# Altium integrated library pca10059.IntLib: 25 symbols
Pins are listed as number, name and electrical type; pins without a type are passive.

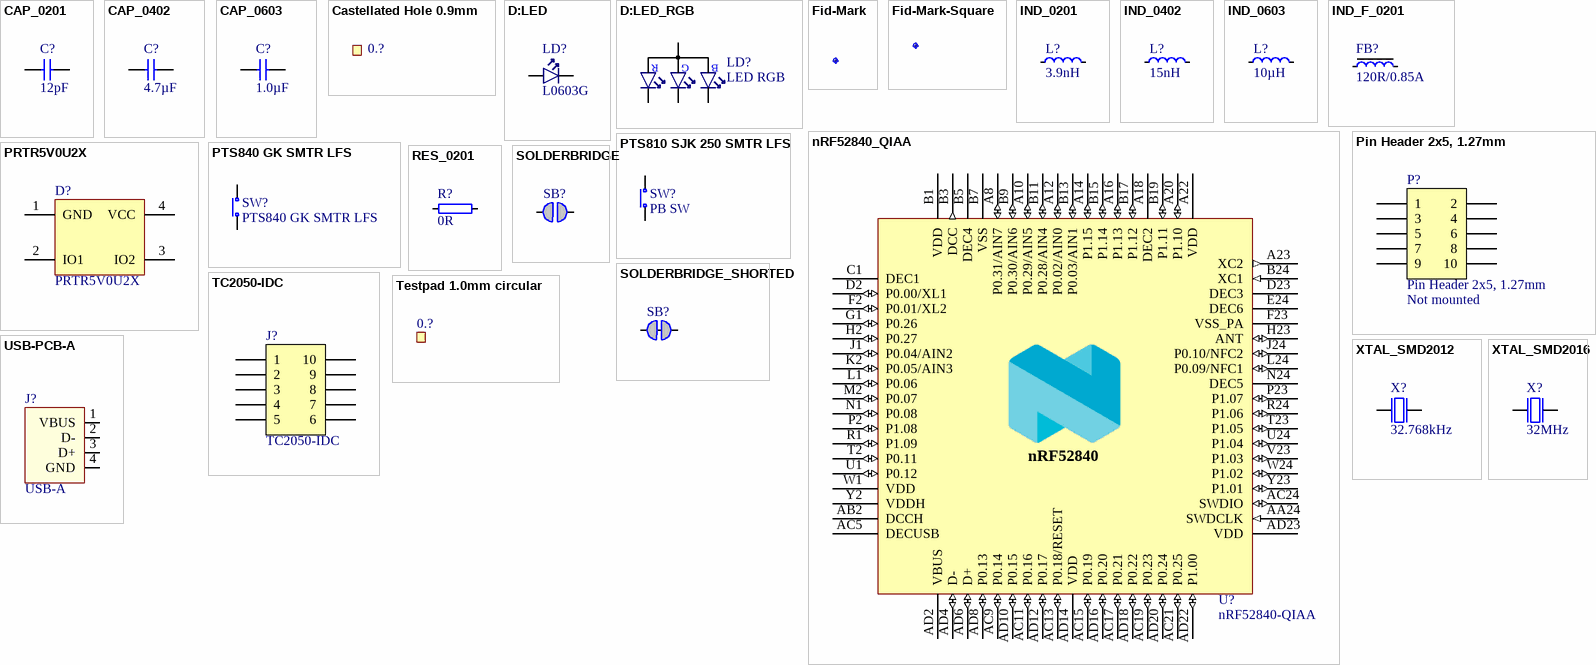
[diagram p0: symbols CAP_0201 to XTAL_SMD2016]

## CAP_0201
designator C?, comment 12pF
Capacitor, NP0, ±2%; Part Number: C0201-12p; Part number IPS: 00000007848; Note: 25V; Artikkelnr Noca: N.A.; Manufacturer: *; Manufacturer Part Number: *; LatestRevisionDate: 2017-11-09; Pin Count: 2; Publisher: Nordic Semiconductor; Published: 2014-11-13; Value: 12pF; Supplier: *; Supplier part number: *; 2nd source Supplier: *; 2nd source part number: *; Footprint Doc: 0201; Artikkelnr Simpro: N.A.; ComponentLink1Description: Datasheet; ComponentLink1URL: *; ComponentLink2Description: Supplier link; ComponentLink2URL: *; HelpURL: *
footprint CAPC0603X03L_C
pins: 1, 2

## CAP_0402
designator C?, comment 4.7µF
Capacitor, X5R, ±20%; Part Number: C0402-4µ7; Part number IPS: 00000001251; Note: 10V; Artikkelnr Noca: 20039482; Artikkelnr Simpro: N.A.; Manufacturer: *; Manufacturer Part Number: *; LatestRevisionDate: 2017-11-09; Pin Count: 2; Publisher: Nordic Semiconductor; Published: 2009-05-08; Value: 4.7µF; Supplier: Digi-Key; Supplier part number: 490-13252-1-ND; 2nd source Supplier: *; 2nd source part number: *; Footprint Doc: 0402; ComponentLink1Description: Datasheet; ComponentLink1URL: *; ComponentLink2Description: Supplier link; ComponentLink2URL: *; HelpURL: *
footprint CAPC1005X04L
pins: 1, 2

## CAP_0603
designator C?, comment 1.0µF
Capacitor, X7R, ±10%; Part Number: C0603-1µ0; Part number IPS: 00000000616; Note: 16V; Artikkelnr Noca: 20039335; Artikkelnr Simpro: N.A.; Manufacturer: *; Manufacturer Part Number: *; LatestRevisionDate: 2013-06-05; Pin Count: 2; Publisher: Nordic Semiconductor; Published: 2009-05-08; Value: 1.0µF; Supplier: *; Supplier part number: *; 2nd source Supplier: *; 2nd source part number: *; Footprint Doc: 0603; ComponentLink1Description: Datasheet; ComponentLink1URL: *; ComponentLink2Description: Supplier link; ComponentLink2URL: *; HelpURL: *
footprint CAPC1608X06L
pins: 1, 2

## Castellated Hole 0.9mm
designator 0.?, comment CH  (value not drawn)  (no BOM)
Castellated Hole 0.9mm; Artikkelnr Noca: N.A.; Part Number: Castellated Hole 0.9mm; Manufacturer: *; Manufacturer Part Number: *; Datasheet: *; LatestRevisionDate: 2016-08-22; Pin Count: 1; Publisher: Nordic Semiconductor; Published: 2016-08-22; Value: CH; Note: *; Supplier: *; Supplier part number: *; 2nd source Supplier: *; 2nd source part number: *; Artikkelnr Simpro: N.A.; ComponentLink1Description: Datasheet; ComponentLink1URL: *; ComponentLink2Description: Supplier link; ComponentLink2URL: *; HelpURL: *
footprint Castellated_Hole_0.9mm
pins: 1

## D:LED
designator LD?, comment L0603G
LED, Green, 0603, 573nm, Vf=2.0V, 24mcd, - 40 to +85°C; Part Number: VS 25C7M5; Manufacturer: Victory Electronics; Artikkelnr Noca: N.A.; Manufacturer Part Number: VS 25C7M5; LatestRevisionDate: 2017-08-21; Pin Count: 2; Publisher: Nordic Semiconductor; Published: 2017-08-21; Value: L0603G; Note: *; Supplier: EC Partner; Supplier part number: *; 2nd source Supplier: *; 2nd source part number: *; Footprint Doc: 0603; Artikkelnr Simpro: N.A.; ComponentLink1Description: Datasheet; ComponentLink1URL: *; ComponentLink2Description: Supplier link; ComponentLink2URL: *; HelpURL: \\hizz\pro\app9717\Datasheet\optoelectronics\Victory Electronics\VS 25C7M5.pdf
footprint LED_0603_G
pins: 1 C, 2 A

## D:LED_RGB
designator LD?, comment LED RGB
RGB LED 1.60 mm x 0.80 mm SMD; Part Number: APHF1608LSEEQBDZGKC; Manufacturer: Kingbright Company LLC; Part number IPS: 00000001254; Artikkelnr Noca: N.A.; Manufacturer Part Number: APHF1608LSEEQBDZGKC; LatestRevisionDate: 2017-11-09; Pin Count: 4; Publisher: Nordic Semiconductor; Published: 2017-09-18; Value: LED RGB; Note: *; Supplier: Digi-Key; Supplier part number: 754-2143-1-ND; 2nd source Supplier: *; 2nd source part number: *; Footprint Doc: LED_RGB_0603; Artikkelnr Simpro: N.A.; ComponentLink1Description: Datasheet; ComponentLink1URL: *; ComponentLink2Description: Supplier link; ComponentLink2URL: *; HelpURL: http://www.kingbrightusa.com/images/catalog/SPEC/APHF1608LSEEQBDZGKC.pdf
footprint LED_RGB_0603
pins: 1 C_RED, 2 C_GREEN, 3 C_BLUE, 4 A
text: R; G; B

## Fid-Mark
designator Fid?, comment Fiducial mark  (value not drawn)
Part Number: Fid-Mark; Artikkelnr Noca: N.A.; Manufacturer: *; Manufacturer Part Number: *; LatestRevisionDate: 2009-12-12; Pin Count: 1; Publisher: Nordic Semiconductor; Published: 2009-12-12; Value: *; Note: *; Supplier: *; Supplier part number: *; 2nd source Supplier: *; 2nd source part number: *; Footprint Doc: Fiducial; Artikkelnr Simpro: N.A.; ComponentLink1Description: Datasheet; ComponentLink1URL: *; ComponentLink2Description: Supplier link; ComponentLink2URL: *; HelpURL: *
footprint Fiducial

## Fid-Mark-Square
designator Fid?, comment Fiducial mark  (value not drawn)
Part Number: Fid-Mark-Square; Artikkelnr Noca: N.A.; Manufacturer: *; Manufacturer Part Number: *; LatestRevisionDate: 2017-01-30; Pin Count: 1; Publisher: Nordic Semiconductor; Published: 2009-12-12; Value: *; Note: *; Supplier: *; Supplier part number: *; 2nd source Supplier: *; 2nd source part number: *; Footprint Doc: Fiducial; Artikkelnr Simpro: N.A.; ComponentLink1Description: Datasheet; ComponentLink1URL: *; ComponentLink2Description: Supplier link; ComponentLink2URL: *; HelpURL: *
footprint Fiducial_Square

## IND_0201
designator L?, comment 3.9nH
Inductor, 400mA, ±0.1nH; Part Number: L0201-3n9; Part number IPS: 00000001253; Note: High frequency chip inductor ±5%; Artikkelnr Noca: N.A.; Manufacturer: *; Manufacturer Part Number: *; LatestRevisionDate: 2017-11-09; Pin Count: 2; Publisher: Nordic Semiconductor; Published: 2013-04-10; Value: 3.9nH; Supplier: *; Supplier part number: *; 2nd source Supplier: *; 2nd source part number: *; Footprint Doc: 0201; Artikkelnr Simpro: N.A.; ComponentLink1Description: Datasheet; ComponentLink2Description: Supplier link; ComponentLink1URL: *; HelpURL: *
footprint INDC0603X03L_C
pins: 1, 2

## IND_0402
designator L?, comment 15nH
Inductor, 320mA, ±5%; Part Number: L0402-15n; Manufacturer: Taiyo Yuden; Manufacturer Part Number: HK100515NJ-T; 2nd source part number: 658-1328; Part number IPS: 00000001262; Note: High frequency chip inductor ±10%; Artikkelnr Noca: 33029323; Artikkelnr Simpro: N.A.; LatestRevisionDate: 2012-09-19; Pin Count: 2; Publisher: Nordic Semiconductor; Published: 2010-07-12; Value: 15nH; Supplier: Digi-Key; Supplier part number: 587-1521-1-ND; 2nd source Supplier: Farnell; Footprint Doc: 0402; ComponentLink1Description: Datasheet; ComponentLink1URL: *; ComponentLink2Description: Supplier link; HelpURL: http://www.yuden.co.jp/productdata/catalog/en/mlci04_e.pdf
footprint INDC1005X04L
pins: 1, 2

## IND_0603
designator L?, comment 10µH
Inductor, 80mA, ±10%; Part Number: L0603-10µ; Manufacturer: Taiyo Yuden; Manufacturer Part Number: LBMF1608T100K; 2nd source part number: 178-6105; Part number IPS: 00000007794; Note: LBMF1608T100K 10µH 80mA 0603; Artikkelnr Noca: 33029314; Artikkelnr Simpro: N.A.; LatestRevisionDate: 2012-09-19; Pin Count: 2; Publisher: Nordic Semiconductor; Published: 2010-02-24; Value: 10µH; Supplier: Digi-Key; Supplier part number: 587-1714-1-ND; 2nd source Supplier: Farnell; Footprint Doc: 0603; ComponentLink1Description: Datasheet; ComponentLink1URL: *; ComponentLink2Description: Supplier link; HelpURL: http://www.yuden.co.jp/ut/product/pdf/elb2_e.pdf
footprint INDC1608X06L
pins: 1, 2

## IND_F_0201
designator FB?, comment 120R/0.85A
Ferrite Bead, 120 Ohm @ 100MHz, 850mA, 150 mOhm Max; Part Number: FB0201-120R@100M-850mA; Manufacturer: Taiyo Yuden; Manufacturer Part Number: BKP0603HS121-T; Part number IPS: 00000001252; Note: Chip EMIFIL Inductor Type Chip Ferrite Bead; Artikkelnr Noca: N.A.; Footprint Doc: 0402; LatestRevisionDate: 2016-08-23; Pin Count: 2; Publisher: Nordic Semiconductor; Published: 2016-08-23; Value: 120R/0.85A; Supplier: Digi-Key; Supplier part number: 587-3286-1-ND; 2nd source Supplier: *; 2nd source part number: *; Artikkelnr Simpro: N.A.; ComponentLink1Description: Datasheet; ComponentLink1URL: *; ComponentLink2Description: Supplier link; HelpURL: http://ds.yuden.co.jp/TYCOMPAS/ut/detail.do?productNo=BKP0603HS121-T&fileName=BKP0603HS121-T_SS&mode=specSheetDownload
footprint INDC0603X03L_C
pins: 1, 2

## nRF52840_QIAA
designator U?, comment nRF52840-QIAA
Multi-protocol Bluetooth Low Energy, IEEE 802.15.4, ANT and 2.4GHz proprietary system-on-chip; Part Number: nRF52840-QIAAC0; Manufacturer: Nordic Semiconductor; Artikkelnr Noca: N.A.; LatestRevisionDate: 2017-12-06; Pin Count: 73; Publisher: Nordic Semiconductor; Published: 2017-08-21; Value: nRF52840-QIAA; Note: *; Footprint Doc: AQFN-73; Manufacturer Part Number: nRF52840-QIAAC0; Supplier: Nordic Semiconductor; Supplier part number: nRF52840-QIAAC0; 2nd source Supplier: *; 2nd source part number: *; Artikkelnr Simpro: N.A.; Part number IPS: N.A.; ComponentLink1Description: Datasheet; ComponentLink1URL: *; ComponentLink2Description: Supplier link; ComponentLink2URL: *; HelpURL: *
footprint AQFN50P700X700X85_HS-74N
pins: 74 GND (power) hidden to GND, A8 P0.31/AIN7 (io), A10 P0.29/AIN5 (io), A12 P0.02/AIN0 (io), A14 P1.15 (io), A16 P1.13 (io), A18 DEC2 (power), A20 P1.10 (io), A22 VDD (power), A23 XC2 (out), AA24 SWDCLK (in), AB2 DCCH (power), AC5 DECUSB (power), AC9 P0.14 (io), AC11 P0.16 (io), AC13 P0.18/RESET (io), AC15 P0.19 (io), AC17 P0.21 (io), AC19 P0.23 (io), AC21 P0.25 (io), AC24 SWDIO (io), AD2 VBUS (power), AD4 D- (io), AD6 D+ (io), AD8 P0.13 (io), AD10 P0.15 (io), AD12 P0.17 (io), AD14 VDD (power), AD16 P0.20 (io), AD18 P0.22 (io), AD20 P0.24 (io), AD22 P1.00 (io), AD23 VDD (power), B1 VDD (power), B3 DCC (out), B5 DEC4 (power), B7 VSS (power), B9 P0.30/AIN6 (io), B11 P0.28/AIN4 (io), B13 P0.03/AIN1 (io), B15 P1.14 (io), B17 P1.12 (io), B19 P1.11 (io), B24 XC1 (in), C1 DEC1 (power), D2 P0.00/XL1 (io), D23 DEC3 (power), E24 DEC6 (power), F2 P0.01/XL2 (io), F23 VSS_PA (power), G1 P0.26 (io), H2 P0.27 (io), H23 ANT (io), J1 P0.04/AIN2 (io), J24 P0.10/NFC2 (io), K2 P0.05/AIN3 (io), L1 P0.06 (io), L24 P0.09/NFC1 (io), M2 P0.07 (io), N1 P0.08 (io), N24 DEC5 (power), P2 P1.08 (io), P23 P1.07 (io), R1 P1.09 (io), R24 P1.06 (io), T2 P0.11 (io), T23 P1.05 (io), U1 P0.12 (io), U24 P1.04 (io), V23 P1.03 (io), W1 VDD (power), W24 P1.02 (io), Y2 VDDH (power), Y23 P1.01 (io)
text: nRF52840

## Pin Header 2x5, 1.27mm
designator P?  Assembly: Not mounted
Pin Header 2x5, 1.27mm (50mil), SMD, Keying Shroud; Part Number: Pin Header 2x5 SMD, 1.27mm, KS, N.C.; Manufacturer: W-CON; Manufacturer Part Number: 3132-10MS0BK00R1; 2nd source part number: FTSH-105-01-F-DV-K; Artikkelnr Noca: N.A.; Footprint Doc: HDR_2x5-SMD-1.27mm; LatestRevisionDate: 2017-09-07; Pin Count: 10; Publisher: Nordic Semiconductor; Published: 2017-09-07; Value: Pin Header 2x5, 1.27mm; Note: *; Supplier: Cabcon; Supplier part number: 3132-10MS0BK00R1; 2nd source Supplier: Samtec; Artikkelnr Simpro: N.A.; ComponentLink1Description: Datasheet; ComponentLink1URL: *; ComponentLink2Description: Supplier link; ComponentLink2URL: *; HelpURL: \\hizz\pro\app9717\Datasheet\connectores\W-CON\3132-XXMXXBK00XX.pdf
footprint HDR_2x5-SMD-1.27mm-NC
pins: 1, 2, 3, 4, 5, 6, 7, 8, 9, 10

## PRTR5V0U2X
designator D?
Ultra low capacitance double rail-to-rail ESD protection diode; Manufacturer: NXP; 2nd source part number: 152-4157; Part number IPS: 00000009951; Artikkelnr Noca: 10069015; Artikkelnr Simpro: N.A.; Part Number: PRTR5V0U2X; Manufacturer Part Number: PRTR5V0U2X; LatestRevisionDate: 2017-11-09; Publisher: Nordic Semiconductor; Published: 2012-06-11; Value: PRTR5V0U2X; Note: *; Supplier: Digi-Key; Supplier part number: 568-4140-1-ND; 2nd source Supplier: Farnell; Footprint Doc: SOT-143B; ComponentLink1Description: Datasheet; ComponentLink1URL: *; ComponentLink2Description: Supplier link; ComponentLink2URL: *; HelpURL: http://www.farnell.com/datasheets/109718.pdf; Pin Count: 4
footprint SOT190P230X110-4L
pins: 1 GND, 2 IO1, 3 IO2, 4 VCC

## PTS810 SJK 250 SMTR LFS
designator SW?, comment PB SW
Tactile Switch, SPNO, SMD, 260gf, 4.2x3.2x2.5mm; Part Number: PTS810 SJK 250 SMTR LFS; Manufacturer: C&K Components; Part number IPS: 00000001259; Artikkelnr Noca: N.A.; Manufacturer Part Number: PTS810 SJK 250 SMTR LFS; LatestRevisionDate: 2017-11-09; Pin Count: 4; Publisher: Nordic Semiconductor; Published: 2017-09-18; Value: PB SW; Note: *; Supplier: Digi-Key; Supplier part number: CKN10503TR-ND; 2nd source Supplier: *; 2nd source part number: *; Footprint Doc: PTS810; Artikkelnr Simpro: N.A.; ComponentLink1Description: Datasheet; ComponentLink1URL: *; ComponentLink2Description: Supplier link; ComponentLink2URL: *; HelpURL: http://www.ckswitches.com/media/1476/pts810.pdf
footprint C&K_PTS810
pins: 1 N.O, 2 COM

## PTS840 GK SMTR LFS
designator SW?
Microminiature SMT Switch, Side Actuated; Manufacturer: C&K Components; 2nd source part number: 611-PTS840GKSMTR; Part number IPS: 00000001260; Note: Tactile Switch, SPST, SMD, 220gf; Artikkelnr Noca: 50019089; Artikkelnr Simpro: N.A.; Part Number: PTS840 GK SMTR LFS; Manufacturer Part Number: PTS840 GK SMTR LFS; LatestRevisionDate: 2017-11-09; Pin Count: 4; Publisher: Nordic Semiconductor; Published: 2014-08-12; Value: PTS840 GK SMTR LFS; Supplier: Digi-Key; Supplier part number: CKN10508CT-ND; 2nd source Supplier: Mouser; Footprint Doc: PTS840 Gx; ComponentLink1Description: Datasheet; ComponentLink1URL: *; ComponentLink2Description: Supplier link; ComponentLink2URL: *; HelpURL: http://www.ck-components.com/80185/pts840_11june13.pdf/
footprint EVQP7A/J/B/K
pins: 1 N.O, 2 COM

## RES_0201
designator R?, comment 0R
Resistor, ±5%, 0.05W; Part Number: R0201-0R; Part number IPS: 00000003245; Note: Chip Res 5%; Artikkelnr Noca: N.A.; Value Ohm: 0; Manufacturer: *; Manufacturer Part Number: *; LatestRevisionDate: 2017-11-09; Pin Count: 2; Publisher: Nordic Semiconductor; Published: 2014-11-13; Value: 0R; Supplier: *; Supplier part number: *; 2nd source Supplier: *; 2nd source part number: *; Footprint Doc: 0201; Artikkelnr Simpro: N.A.; ComponentLink1Description: Datasheet; ComponentLink1URL: *; ComponentLink2Description: Supplier link; ComponentLink2URL: *; HelpURL: *
footprint RESC0603X03L_C
pins: 1, 2

## SOLDERBRIDGE
designator SB?, comment Solderbridge  (value not drawn)  (no BOM)
Artikkelnr Noca: N.A.; Part Number: Solderbridge; Manufacturer: *; Manufacturer Part Number: *; Footprint Doc: Solderbridge; LatestRevisionDate: 2009-12-14; Pin Count: 2; Publisher: Nordic Semiconductor; Published: 2009-12-14; Value: Solderbridge; Note: *; Supplier: *; Supplier part number: *; 2nd source Supplier: *; 2nd source part number: *; Artikkelnr Simpro: N.A.; ComponentLink1Description: Datasheet; ComponentLink1URL: *; ComponentLink2Description: Supplier link; ComponentLink2URL: *; HelpURL: *
footprint Solderbridge
pins: 1 0, 2 1

## SOLDERBRIDGE_SHORTED
designator SB?, comment Solderbridge  (value not drawn)  (net tie, no BOM)
Shorted Solderbridge; Part Number: Solderbridge Shorted; Artikkelnr Noca: N.A.; Manufacturer: *; Manufacturer Part Number: *; Footprint Doc: Solderbridge_Shorted; LatestRevisionDate: 2012-08-07; Pin Count: 2; Publisher: Nordic Semiconductor; Published: 2012-08-07; Value: Solderbridge; Note: *; Supplier: *; Supplier part number: *; 2nd source Supplier: *; 2nd source part number: *; Artikkelnr Simpro: N.A.; ComponentLink1Description: Datasheet; ComponentLink1URL: *; ComponentLink2Description: Supplier link; ComponentLink2URL: *; HelpURL: *
footprint Solderbridge_Shorted
pins: 1 0, 2 1

## TC2050-IDC
designator J?  (no BOM)
CBL PLUG-OF-NAILS 10-PIN; Part Number: TC2050-IDC-NLFP; Manufacturer: Tag-Connect LLC; Artikkelnr Noca: N.A.; Manufacturer Part Number: TC2050-IDC-NLFP; LatestRevisionDate: 2012-11-21; Publisher: Nordic Semiconductor; Published: 2012-11-21; Value: TC2050-IDC; Supplier: Digi-Key; Supplier part number: TC2050-IDC-NL-ND; 2nd source Supplier: *; 2nd source part number: *; Pin Count: 10; Footprint Doc: TC2050-IDC-NLFP; Artikkelnr Simpro: N.A.; ComponentLink1Description: Datasheet; ComponentLink1URL: *; ComponentLink2Description: Supplier link; ComponentLink2URL: *; HelpURL: http://www.tag-connect.com/Materials/TC2050-IDC%20Datasheet.pdf
footprint TC2050-IDC-NLFP
pins: 1, 2, 3, 4, 5, 6, 7, 8, 9, 10

## Testpad 1.0mm circular
designator 0.?, comment Ø1.0mm,SMD  (value not drawn)  (no BOM)
1.0mm circular SMD testpad; Part Number: TP_SMD_Ø1.0MM; Manufacturer: Nordic Semiconductor; Artikkelnr Noca: N.A.; Manufacturer Part Number: *; Datasheet: *; Footprint Doc: TP_SMD_Ø1.0mm; LatestRevisionDate: 2013-06-11; Pin Count: 1; Publisher: Nordic Semiconductor; Published: 2013-06-11; Value: Ø1.0mm,SMD; Note: *; Supplier: *; Supplier part number: *; 2nd source Supplier: *; 2nd source part number: *; Artikkelnr Simpro: N.A.; ComponentLink1Description: Datasheet; ComponentLink1URL: *; ComponentLink2Description: Supplier link; ComponentLink2URL: *; HelpURL: *
footprint TP_SMD_Ø1.0mm
pins: 1

## USB-PCB-A
designator J?, comment USB-A  (no BOM)
USB-A PCB footprint; Part Number: USB-A-PCB; Artikkelnr Noca: N.A.; Manufacturer: *; Manufacturer Part Number: *; LatestRevisionDate: 2014-06-04; Pin Count: 4; Publisher: Nordic Semiconductor; Published: 2014-06-04; Value: USB-A; Note: *; Supplier: *; Supplier part number: *; 2nd source Supplier: *; 2nd source part number: *; Footprint Doc: USB-A-PCB; Artikkelnr Simpro: N.A.; ComponentLink1Description: Datasheet; ComponentLink1URL: *; ComponentLink2Description: Supplier link; ComponentLink2URL: *; HelpURL: *
footprint USB-A-PCB
pins: 1 VBUS, 2 D-, 3 D+, 4 GND

## XTAL_SMD2012
designator X?, comment 32.768kHz
XTAL SMD 2012, 32.768kHz, 9pF, ±20ppm; Part Number: XTAL_SMD2012_32.768kHz_9pF_Seiko; Manufacturer: Seiko; Manufacturer Part Number: SC20S-9.0PF20PPM; Part number IPS: 80000001425; Note: XTAL SMD 32.768kHz; Artikkelnr Noca: N.A.; LatestRevisionDate: 2017-11-09; Pin Count: 2; Publisher: Nordic Semiconductor; Published: 2015-10-15; Value: 32.768kHz; Supplier: *; Supplier part number: *; 2nd source Supplier: *; 2nd source part number: *; Footprint Doc: XTAL_2012; Artikkelnr Simpro: N.A.; ComponentLink1Description: Datasheet; ComponentLink1URL: *; ComponentLink2Description: Supplier link; ComponentLink2URL: *; HelpURL: http://www.sii.co.jp/en/quartz/files/2013/03/file_PRODUCT_MASTER_50811_GRAPHIC03.pdf
footprint XTAL_2012
pins: 1 inp, 2 out

## XTAL_SMD2016
designator X?, comment 32MHz
XTAL SMD 2016, 32MHz, Cl=8pF, Tol: ±10ppm, Stab: ±10ppm; Part Number: XTAL_SMD2016_32MHz_8pF_Murata; Manufacturer: Murata; Manufacturer Part Number: XRCGB32M000F1H01R0; Part number IPS: 80000001424; Note: XTAL SMD 32.000MHz; Artikkelnr Noca: N.A.; LatestRevisionDate: 2017-11-09; Pin Count: 4; Publisher: Nordic Semiconductor; Published: 2016-10-26; Value: 32MHz; Supplier: *; Supplier part number: *; 2nd source Supplier: *; 2nd source part number: *; Footprint Doc: XTAL_2016; Artikkelnr Simpro: N.A.; ComponentLink1Description: Datasheet; ComponentLink1URL: *; ComponentLink2Description: Supplier link; ComponentLink2URL: *; HelpURL: http://www.murata.com/en-global/products/productdetail.aspx?cate=cgsubCrystalUnits&partno=XRCGB32M000F1H01R0
footprint BT-XTAL_2016
pins: 1 inp, 2 GND hidden to GND, 3 out, 4 GND hidden to GND